# Altium footprint library QFN.PcbLib: 5 footprints
Each footprint in its own frame and in the unit in brackets; x right, y up, seen from the top. Pads: shape width x height; smd on the part's side, far side on the other; paste and mask are expansions set on the pad; w line width, h text height; cw(c..) or ccw(c..) is an arc to the next point about the centre after c.
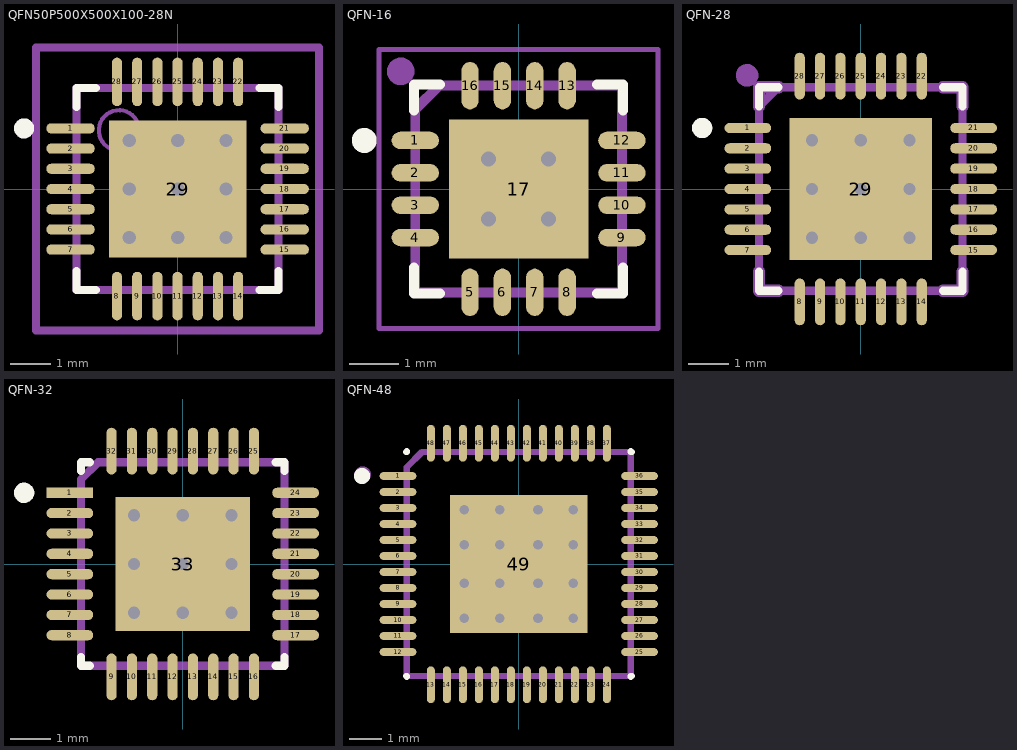
[diagram p0: the footprints below, top view; thin cyan lines are the x and y axes]

## QFN50P500X500X100-28N [mm] "QFN, 28-Leads, Body 5,0x5,0mm (max), Pitch 0,50mm, IPC Medium Density"
height 1
pads (29):
  oval 1.2x0.25 smd: 1(-2.65,1.5) 2(-2.65,1) 3(-2.65,0.5) 4(-2.65,0) 5(-2.65,-0.5) 6(-2.65,-1) 7(-2.65,-1.5) 15(2.65,-1.5) 16(2.65,-1) 17(2.65,-0.5) 18(2.65,0) 19(2.65,0.5) 20(2.65,1) 21(2.65,1.5)
  oval 0.25x1.2 smd: 8(-1.5,-2.65) 9(-1,-2.65) 10(-0.5,-2.65) 11(0,-2.65) 12(0.5,-2.65) 13(1,-2.65) 14(1.5,-2.65) 22(1.5,2.65) 23(1,2.65) 24(0.5,2.65) 25(0,2.65) 26(-0.5,2.65) 27(-1,2.65) 28(-1.5,2.65)
  rect 3.4x3.4 smd: 29(0,0)
via 1.2,-1.2 diameter 0.66 hole 0.33
via 0,-1.2 diameter 0.66 hole 0.33
via -1.2,-1.2 diameter 0.66 hole 0.33
via 1.2,0 diameter 0.66 hole 0.33
via 0,0 diameter 0.66 hole 0.33
via -1.2,0 diameter 0.66 hole 0.33
via 1.2,1.2 diameter 0.66 hole 0.33
via 0,1.2 diameter 0.66 hole 0.33
via -1.2,1.2 diameter 0.66 hole 0.33
Top Overlay:
  circle w0.25: c-3.8,1.5 r0.125
  lines w0.2: -2.5,-2.025 -2.5,-2.5 -2.025,-2.5 ; -2.5,2.025 -2.5,2.5 -2.025,2.5 ; 2.025,-2.5 2.5,-2.5 2.5,-2.025 ; 2.025,2.5 2.5,2.5 2.5,2.025
Mechanical 13:
  circle w0.1: c-1.45,1.45 r0.5
  lines w0.2: -2.5,-2.5 2.5,-2.5 2.5,2.5 -2.5,2.5 -2.5,-2.5
Mechanical 15:
  lines w0.2: -0.5,0 0.5,0 ; 0,-0.5 0,0.5 ; -3.5,-3.5 3.5,-3.5 3.5,3.5 -3.5,3.5 -3.5,-3.5
3D body: height 1, standoff 0.01, extent -2.5,-2.5 2.5,2.5

## QFN-16 [mm] "QFN, 16-Leads, Body 4,2x4,2mm (max), Pitch 0,65mm, IPC Medium Density"
height 0.8
pads (17):
  oval 0.95x0.35 smd paste-0.05: 1(-2.075,0.975) 2(-2.075,0.325) 3(-2.075,-0.325) 4(-2.075,-0.975) 9(2.075,-0.975) 10(2.075,-0.325) 11(2.075,0.325) 12(2.075,0.975)
  oval 0.35x0.95 smd paste-0.05: 5(-0.975,-2.075) 6(-0.325,-2.075) 7(0.325,-2.075) 8(0.975,-2.075) 13(0.975,2.075) 14(0.325,2.075) 15(-0.325,2.075) 16(-0.975,2.075)
  rect 2.8x2.8 smd paste-0.1: 17(0,0)
via -0.6,0.6 diameter 0.8 hole 0.3
via 0.6,0.6 diameter 0.8 hole 0.3
via -0.6,-0.6 diameter 0.8 hole 0.3
via 0.6,-0.6 diameter 0.8 hole 0.3
Top Overlay:
  circle w0.25: c-3.1,0.975 r0.125
  lines w0.2: -2.1,-1.575 -2.1,-2.1 -1.575,-2.1 ; -2.1,1.575 -2.1,2.1 -1.575,2.1 ; 1.575,-2.1 2.1,-2.1 2.1,-1.575 ; 1.575,2.1 2.1,2.1 2.1,1.575
Mechanical 13:
  circle w0.3: c-2.369,2.362 r0.127
  lines w0.2: -2.075,-2.075 -2.075,1.6 -1.6,2.075 2.075,2.075 2.075,-2.075 -2.075,-2.075
  text ".Designator" at -0.94,-1.219 h1.5
Mechanical 15:
  lines w0.1: -0.5,0 0.5,0 ; 0,-0.5 0,0.5 ; -2.8,-2.8 -2.8,2.8 2.8,2.8 2.8,-2.8 -2.8,-2.8
3D body: height 0.8, standoff 0.01, extent -2.075,-2.075 2.075,2.075

## QFN-28 [mm] "QFN, 28-Leads, Body 5,0x5,0mm (max), Pitch 0,50mm, IPC Low Density"
height 1
pads (29):
  oval 1.15x0.25 smd: 1(-2.775,1.5) 2(-2.775,1) 3(-2.775,0.5) 4(-2.775,0) 5(-2.775,-0.5) 6(-2.775,-1) 7(-2.775,-1.5) 15(2.775,-1.5) 16(2.775,-1) 17(2.775,-0.5) 18(2.775,0) 19(2.775,0.5) 20(2.775,1) 21(2.775,1.5)
  oval 0.25x1.15 smd: 8(-1.5,-2.775) 9(-1,-2.775) 10(-0.5,-2.775) 11(0,-2.775) 12(0.5,-2.775) 13(1,-2.775) 14(1.5,-2.775) 22(1.5,2.775) 23(1,2.775) 24(0.5,2.775) 25(0,2.775) 26(-0.5,2.775) 27(-1,2.775) 28(-1.5,2.775)
  rect 3.5x3.5 smd paste-5: 29(0,0)
via -1.2,1.2 diameter 0.8 hole 0.3
via 0,1.2 diameter 0.8 hole 0.3
via 1.2,1.2 diameter 0.8 hole 0.3
via -1.2,0 diameter 0.8 hole 0.3
via 0,0 diameter 0.8 hole 0.3
via 1.2,0 diameter 0.8 hole 0.3
via -1.2,-1.2 diameter 0.8 hole 0.3
via 0,-1.2 diameter 0.8 hole 0.3
via 1.2,-1.2 diameter 0.8 hole 0.3
Top Overlay:
  circle w0.25: c-3.9,1.5 r0.125
  lines w0.2: -2.5,-2.025 -2.5,-2.5 -2.025,-2.5 ; -2.5,2.025 -2.5,2.5 -2.025,2.5 ; 2.025,-2.5 2.5,-2.5 2.5,-2.025 ; 2.025,2.5 2.5,2.5 2.5,2.025
Top Paste:
  region: -0.508,1.651 0.508,1.651 0.508,0.635 -0.508,0.635
  region: 0.692,1.651 1.651,1.651 1.651,0.635 0.692,0.635
  region: -1.651,1.651 -0.692,1.651 -0.692,0.635 -1.651,0.635
  region: -1.651,0.451 -0.692,0.451 -0.692,-0.565 -1.651,-0.565
  region: -0.508,0.451 0.508,0.451 0.508,-0.565 -0.508,-0.565
  region: 0.692,0.451 1.651,0.451 1.651,-0.565 0.692,-0.565
  region: -1.651,-0.749 -0.692,-0.749 -0.692,-1.651 -1.651,-1.651
  region: -0.508,-0.749 0.508,-0.749 0.508,-1.651 -0.508,-1.651
  region: 0.692,-0.749 1.651,-0.749 1.651,-1.651 0.692,-1.651
Mechanical 3:
  lines w0.3: -2.5,-2.025 -2.5,-2.5 -2.025,-2.5 ; -2.5,2.025 -2.5,2.5 -2.025,2.5 ; 2.025,-2.5 2.5,-2.5 2.5,-2.025 ; 2.025,2.5 2.5,2.5 2.5,2.025
Mechanical 13:
  circle w0.3: c-2.794,2.794 r0.127
  lines w0.2: -2.5,-2.5 2.5,-2.5 2.5,2.5 -2.032,2.5 -2.5,2.032 -2.5,-2.5
  text ".Designator" at -2.032,3.937 h1.5
3D body: height 1, standoff 0, extent -2.5,-2.51 2.52,2.51

## QFN-32 [mm] "QFN, 32-Leads, Body 5,0x5,0mm (max), Pitch 0,50mm, IPC Medium Density"
height 0.9
pads (33):
  rect 1.15x0.25 smd: 1(-2.775,1.75)
  oval 1.15x0.25 smd: 2(-2.775,1.25) 3(-2.775,0.75) 4(-2.775,0.25) 5(-2.775,-0.25) 6(-2.775,-0.75) 7(-2.775,-1.25) 8(-2.775,-1.75) 17(2.775,-1.75) 18(2.775,-1.25) 19(2.775,-0.75) 20(2.775,-0.25) 21(2.775,0.25) 22(2.775,0.75) 23(2.775,1.25) 24(2.775,1.75)
  oval 0.25x1.15 smd: 9(-1.75,-2.775) 10(-1.25,-2.775) 11(-0.75,-2.775) 12(-0.25,-2.775) 13(0.25,-2.775) 14(0.75,-2.775) 15(1.25,-2.775) 16(1.75,-2.775) 25(1.75,2.775) 26(1.25,2.775) 27(0.75,2.775) 28(0.25,2.775) 29(-0.25,2.775) 30(-0.75,2.775) 31(-1.25,2.775) 32(-1.75,2.775)
  rect 3.3x3.3 smd paste-5: 33(0,0)
via 1.2,-1.2 diameter 0.8 hole 0.3
via 0,-1.2 diameter 0.8 hole 0.3
via -1.2,-1.2 diameter 0.8 hole 0.3
via 1.2,0 diameter 0.8 hole 0.3
via 0,0 diameter 0.8 hole 0.3
via -1.2,0 diameter 0.8 hole 0.3
via 1.2,1.2 diameter 0.8 hole 0.3
via 0,1.2 diameter 0.8 hole 0.3
via -1.2,1.2 diameter 0.8 hole 0.3
Top Overlay:
  circle w0.25: c-3.9,1.75 r0.125
  lines w0.2: -2.5,-2.286 -2.5,-2.5 -2.286,-2.5 ; -2.5,2.286 -2.5,2.5 -2.286,2.5 ; 2.286,-2.5 2.5,-2.5 2.5,-2.286 ; 2.286,2.5 2.5,2.5 2.5,2.286
Top Paste:
  region: 0.749,1.6 1.6,1.6 1.6,0.635 0.749,0.635
  region: -0.451,1.6 0.508,1.6 0.508,0.635 -0.451,0.635
  region: -0.451,0.451 0.508,0.451 0.508,-0.565 -0.451,-0.565
  region: 0.749,0.451 1.6,0.451 1.6,-0.565 0.749,-0.565
  region: 0.749,-0.749 1.6,-0.749 1.6,-1.6 0.749,-1.6
  region: -0.451,-0.749 0.508,-0.749 0.508,-1.6 -0.451,-1.6
  region: -1.6,-0.749 -0.692,-0.749 -0.692,-1.6 -1.6,-1.6
  region: -1.6,0.451 -0.692,0.451 -0.692,-0.565 -1.6,-0.565
  region: -1.6,1.6 -0.692,1.6 -0.692,0.635 -1.6,0.635
Mechanical 13:
  lines w0.2: -2.5,-2.5 -2.5,2.083 -2.083,2.5 2.5,2.5 2.5,-2.5 -2.5,-2.5
  text ".Designator" at -1.778,3.81 h2.5
3D body: height 0.9, standoff 0, extent -2.511,-2.5 2.489,2.5

## QFN-48 [mm] "QFN, 48-Leads, Body 7,0x7,0mm (max), Pitch 0,50mm, IPC Low Density"
height 0.9
pads (49):
  oval 1.15x0.25 smd: 1(-3.775,2.75) 2(-3.775,2.25) 3(-3.775,1.75) 4(-3.775,1.25) 5(-3.775,0.75) 6(-3.775,0.25) 7(-3.775,-0.25) 8(-3.775,-0.75) 9(-3.775,-1.25) 10(-3.775,-1.75) 11(-3.775,-2.25) 12(-3.775,-2.75) 25(3.775,-2.75) 26(3.775,-2.25) 27(3.775,-1.75) 28(3.775,-1.25) 29(3.775,-0.75) 30(3.775,-0.25) 31(3.775,0.25) 32(3.775,0.75) 33(3.775,1.25) 34(3.775,1.75) 35(3.775,2.25) 36(3.775,2.75)
  oval 0.25x1.15 smd: 13(-2.75,-3.775) 14(-2.25,-3.775) 15(-1.75,-3.775) 16(-1.25,-3.775) 17(-0.75,-3.775) 18(-0.25,-3.775) 19(0.25,-3.775) 20(0.75,-3.775) 21(1.25,-3.775) 22(1.75,-3.775) 23(2.25,-3.775) 24(2.75,-3.775) 37(2.75,3.775) 38(2.25,3.775) 39(1.75,3.775) 40(1.25,3.775) 41(0.75,3.775) 42(0.25,3.775) 43(-0.25,3.775) 44(-0.75,3.775) 45(-1.25,3.775) 46(-1.75,3.775) 47(-2.25,3.775) 48(-2.75,3.775)
  rect 4.3x4.3 smd paste-5: 49(0,0)
via 1.7,-1.7 diameter 0.8 hole 0.3
via 0.6,-1.7 diameter 0.8 hole 0.3
via -0.6,-1.7 diameter 0.8 hole 0.3
via -1.7,-1.7 diameter 0.8 hole 0.3
via 1.7,-0.6 diameter 0.8 hole 0.3
via 0.6,-0.6 diameter 0.8 hole 0.3
via -0.6,-0.6 diameter 0.8 hole 0.3
via -1.7,-0.6 diameter 0.8 hole 0.3
via 1.7,0.6 diameter 0.8 hole 0.3
via 0.6,0.6 diameter 0.8 hole 0.3
via -0.6,0.6 diameter 0.8 hole 0.3
via -1.7,0.6 diameter 0.8 hole 0.3
via 1.7,1.7 diameter 0.8 hole 0.3
via 0.6,1.7 diameter 0.8 hole 0.3
via -0.6,1.7 diameter 0.8 hole 0.3
via -1.7,1.7 diameter 0.8 hole 0.3
Top Overlay:
  circle w0.25: c-4.9,2.75 r0.125
  lines w0.2: -3.525,-3.5 -3.5,-3.5 -3.5,-3.525 ; -3.525,3.5 -3.5,3.5 -3.5,3.525 ; 3.5,-3.525 3.5,-3.5 3.525,-3.5 ; 3.5,3.525 3.5,3.5 3.525,3.5
Top Paste:
  rectangle: -1.067,0.152 -0.152,1.067
  rectangle: 0.133,0.152 1.048,1.067
  rectangle: 0.133,-1.048 1.048,-0.133
  rectangle: -1.067,-1.048 -0.152,-0.133
  rectangle: -1.067,-2.083 -0.152,-1.233
  rectangle: 0.133,-2.083 1.048,-1.233
  rectangle: 1.233,-2.083 2.083,-1.233
  rectangle: 1.233,-1.048 2.083,-0.133
  rectangle: 1.233,0.152 2.083,1.067
  rectangle: 1.233,1.252 2.083,2.083
  rectangle: 0.133,1.252 1.048,2.083
  rectangle: -1.067,1.252 -0.152,2.083
  rectangle: -2.083,1.252 -1.252,2.083
  rectangle: -2.083,0.152 -1.252,1.067
  rectangle: -2.083,-1.048 -1.252,-0.133
  rectangle: -2.083,-2.083 -1.252,-1.233
Mechanical 13:
  circle w0.254: c-4.877,2.794 r0.127
  lines w0.2: -3.5,-3.5 3.5,-3.5 3.5,3.5 -3.023,3.5 -3.5,3.023 -3.5,-3.5
  text ".Designator" at -1.245,-0.483 h2.5
3D body: height 0.85, standoff -0.05, extent -3.495,-3.5 3.505,3.5